# EAGLE library part MICROBUILDER_VREG_TPS63060/1 (library CoffeeHeater)
TPS63060/63061 2A Boost/Buck Switch Converter VIN: 2.5 - 12V Fixed frequency operation: 2.4MHz
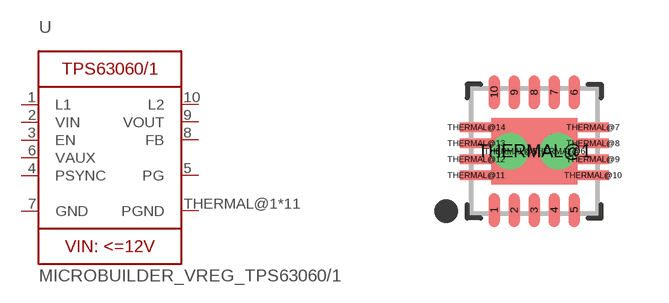
[diagram p2: symbol with the pads of MICROBUILDER_PWSON-N10; footprint MICROBUILDER_PWSON-N10]

Designator prefix U

## MICROBUILDER_VREG_TPS63060/1  [MICROBUILDER_PWSON-N10]
1  L1  in
2  VIN  pwr
3  EN  in
4  PSYNC  in
5  PG  oc
6  VAUX  pas
7  GND  pwr
8  FB  in
9  VOUT  pwr
10  L2  in
THERMAL@1  PGND  pwr
THERMAL@5  PGND  pwr
THERMAL@6  PGND  pwr
THERMAL@7  PGND  pwr
THERMAL@8  PGND  pwr
THERMAL@9  PGND  pwr
THERMAL@10  PGND  pwr
THERMAL@11  PGND  pwr
THERMAL@12  PGND  pwr
THERMAL@13  PGND  pwr
THERMAL@14  PGND  pwr

## Footprint MICROBUILDER_PWSON-N10 (pad centres in mm)
S-PWSON-N10 Source: http://www.ti.com/lit/ds/symlink/tps63060.pdf
smd 0.28 x 0.85: 1 -1,-1.475; 2 -0.5,-1.475; 3 0,-1.475; 4 0.5,-1.475; 5 1,-1.475; 6 1,1.475; 7 0.5,1.475; 8 0,1.475; 9 -0.5,1.475; 10 -1,1.475
smd 2.15 x 1.66: THERMAL@1 0,0
drill 0.4 pad 0.6: THERMAL@5 -0.6,0; THERMAL@6 0.6,0
smd 0.8 x 0.23: THERMAL@7 1.46,0.6; THERMAL@8 1.46,0.2; THERMAL@9 1.46,-0.2; THERMAL@10 1.46,-0.6; THERMAL@11 -1.46,-0.6; THERMAL@12 -1.46,-0.2; THERMAL@13 -1.46,0.2; THERMAL@14 -1.46,0.6